# EAGLE library part CC2400_RSU_48 (library cyberhedz)
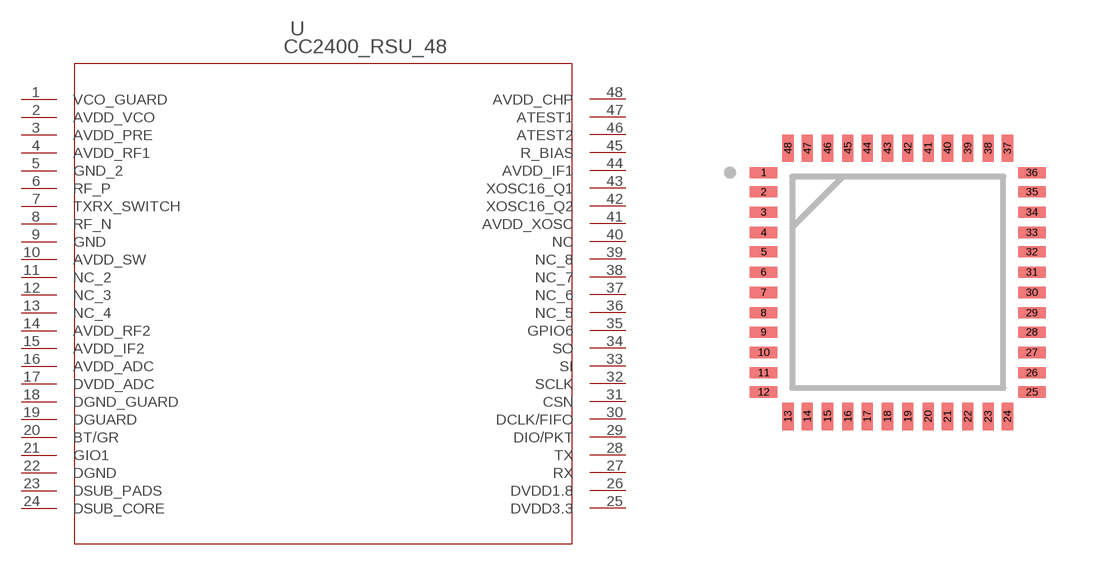
[diagram p9: symbol with the pads of RSU48; footprint RSU48]

Designator prefix U

## CC2400_RSU_48 (DATASHEETURL: Unknown; DESCRIPTION: Unknown; FAMILY_NAME: Unknown; GENERIC_PART_NUMBER: CC2400; INDUSTRY_STD_PKG_TYPE: Unknown; MANUFACTURER: Texas Instruments; PACKAGE_DESIGNATOR: RSU; PIN_COUNT: 48)  [RSU48]
1  VCO_GUARD  pwr
2  AVDD_VCO  pwr
3  AVDD_PRE  pwr
4  AVDD_RF1  pwr
5  GND_2  pwr
6  RF_P
7  TXRX_SWITCH  pwr
8  RF_N
9  GND  pwr
10  AVDD_SW  pwr
11  NC_2  nc
12  NC_3  nc
13  NC_4  nc
14  AVDD_RF2  pwr
15  AVDD_IF2  pwr
16  AVDD_ADC  pwr
17  DVDD_ADC  pwr
18  DGND_GUARD  pwr
19  DGUARD  pwr
20  BT/GR  in
21  GIO1
22  DGND  pwr
23  DSUB_PADS  pwr
24  DSUB_CORE  pwr
25  DVDD3.3  pwr
26  DVDD1.8  pwr
27  RX  in
28  TX
29  DIO/PKT
30  DCLK/FIFO  out
31  CSN  in
32  SCLK  in
33  SI  in
34  SO  out
35  GPIO6  out
36  NC_5  nc
37  NC_6  nc
38  NC_7  nc
39  NC_8  nc
40  NC  nc
41  AVDD_XOSC  pwr
42  XOSC16_Q2  out
43  XOSC16_Q1  in
44  AVDD_IF1  pwr
45  R_BIAS  out
46  ATEST2
47  ATEST1
48  AVDD_CHP  pwr

## Footprint RSU48 (pad centres in mm)
smd 0.686 x 0.279: 1 -3.353,2.743; 2 -3.353,2.261; 3 -3.353,1.753; 4 -3.353,1.245; 5 -3.353,0.762; 6 -3.353,0.254; 7 -3.353,-0.254; 8 -3.353,-0.762; 9 -3.353,-1.245; 10 -3.353,-1.753; 11 -3.353,-2.261; 12 -3.353,-2.743; 25 3.353,-2.743; 26 3.353,-2.261; 27 3.353,-1.753; 28 3.353,-1.245; 29 3.353,-0.762; 30 3.353,-0.254; 31 3.353,0.254; 32 3.353,0.762; 33 3.353,1.245; 34 3.353,1.753; 35 3.353,2.261; 36 3.353,2.743
smd 0.279 x 0.686: 13 -2.743,-3.353; 14 -2.261,-3.353; 15 -1.753,-3.353; 16 -1.245,-3.353; 17 -0.762,-3.353; 18 -0.254,-3.353; 19 0.254,-3.353; 20 0.762,-3.353; 21 1.245,-3.353; 22 1.753,-3.353; 23 2.261,-3.353; 24 2.743,-3.353; 37 2.743,3.353; 38 2.261,3.353; 39 1.753,3.353; 40 1.245,3.353; 41 0.762,3.353; 42 0.254,3.353; 43 -0.254,3.353; 44 -0.762,3.353; 45 -1.245,3.353; 46 -1.753,3.353; 47 -2.261,3.353; 48 -2.743,3.353